# EAGLE library part VND5E160AJTR-E (library VND5E160AJTR-E)
Double channel high side driver with analog current sense for automotive applications Source: Datasheet <https://www.st.com/resource/en/datasheet/vnd5e160aj-e.pdf>
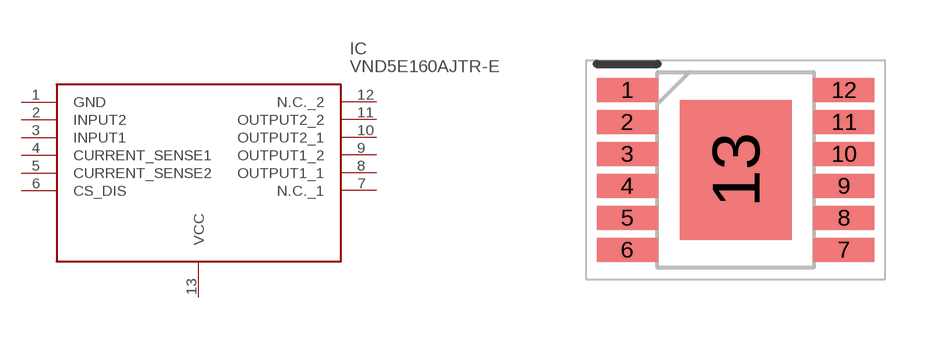
[diagram p0: symbol with the pads of SOP80P600X162-13N; footprint SOP80P600X162-13N]

Designator prefix IC

## VND5E160AJTR-E (Arrow_Part_Number: VND5E160AJTR-E; Arrow_Price-Stock: https://www.arrow.com/en/products/vnd5e160ajtr-e/stmicroelectronics; Description: Double channel high side driver with analog current sense for automotive applications; Height: 1.62mm; Manufacturer_Name: STMicroelectronics; Manufacturer_Part_Number: VND5E160AJTR-E; Mouser_Part_Number: 511-VND5E160AJTR-E; Mouser_Price-Stock: https://www.mouser.co.uk/ProductDetail/STMicroelectronics/VND5E160AJTR-E?qs=%252BB84zevwoRBQ6E2cyA0a1g%3D%3D)  [SOP80P600X162-13N]
1  GND
2  INPUT2
3  INPUT1
4  CURRENT_SENSE1
5  CURRENT_SENSE2
6  CS_DIS
7  N.C._1
8  OUTPUT1_1
9  OUTPUT1_2
10  OUTPUT2_1
11  OUTPUT2_2
12  N.C._2
13  VCC

## Footprint SOP80P600X162-13N (pad centres in mm)
PowerSSO-12 height 1.62
smd 1.525 x 0.6: 1 -2.712,2; 2 -2.712,1.2; 3 -2.712,0.4; 4 -2.712,-0.4; 5 -2.712,-1.2; 6 -2.712,-2; 7 2.712,-2; 8 2.712,-1.2; 9 2.712,-0.4; 10 2.712,0.4; 11 2.712,1.2; 12 2.712,2
smd 2.8 x 3.5: 13 0,0